# Altium footprint library Connectors.PcbLib: 4 footprints
Each footprint in its own frame and in the unit in brackets; x right, y up, seen from the top. Pads: shape width x height; smd on the part's side, far side on the other; paste and mask are expansions set on the pad; w line width, h text height; cw(c..) or ccw(c..) is an arc to the next point about the centre after c.
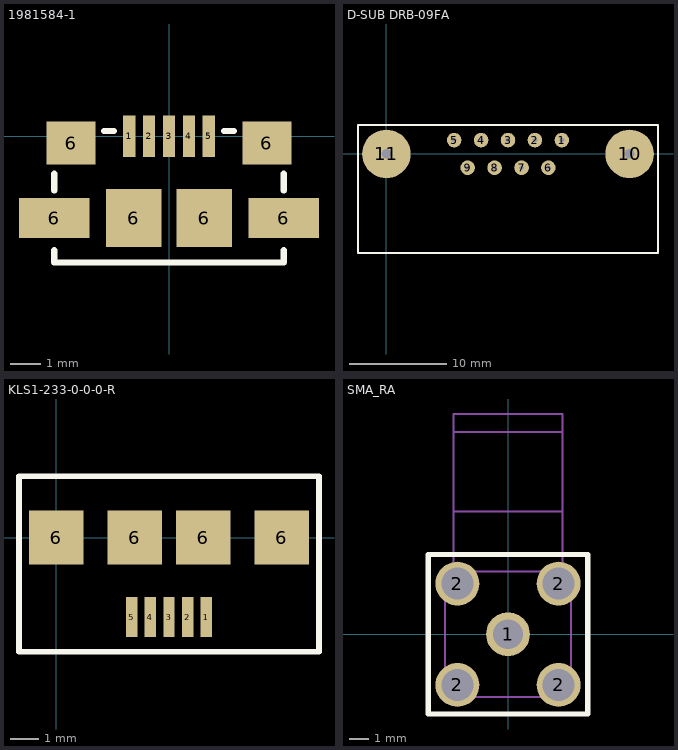
[diagram p0: the footprints below, top view; thin cyan lines are the x and y axes]

## 1981584-1 [mm]
pads (11):
  rect 0.4x1.35 smd: 1(-1.3,0) 2(-0.65,0) 3(0,0) 4(0.65,0) 5(1.3,0)
  rect 2.3x1.3 smd: 6(-3.75,-2.675) 6(3.75,-2.675)
  rect 1.6x1.4 smd: 6(-3.2,-0.225) 6(3.2,-0.225)
  rect 1.8x1.9 smd: 6(-1.15,-2.675) 6(1.15,-2.675)
Top Overlay:
  lines w0.2: -3.75,-3.725 -3.75,-4.125 3.75,-4.125 3.75,-3.725 ; -3.75,-1.775 -3.75,-1.225 ; -2.125,0.175 -1.8,0.175 ; 1.8,0.175 2.125,0.175 ; 3.75,-1.775 3.75,-1.225

## D-SUB DRB-09FA [mm]
pads (11):
  round 1.5 hole 0.5: 1(18.04,1.42) 2(15.27,1.42) 3(12.5,1.42) 4(9.73,1.42) 5(6.96,1.42) 6(16.65,-1.42) 7(13.89,-1.42) 8(11.12,-1.42) 9(8.35,-1.42)
  round 5 hole 1: 10(25,0) 11(0,0)
Top Overlay:
  lines w0.2: -2.92,-10.2 -2.92,2.98 27.92,2.98 27.92,-10.2 -2.92,-10.2

## KLS1-233-0-0-0-R [mm] "micro-USB"
pads (9):
  rect 0.4x1.4 smd: 1(5.25,-2.78) 2(4.6,-2.78) 3(3.95,-2.78) 4(3.3,-2.78) 5(2.65,-2.78)
  rect 1.9x1.9 smd: 6(0,0) 6(2.75,0) 6(5.15,0) 6(7.9,0)
Top Overlay:
  lines w0.2: -1.3,-4 -1.3,2.15 9.2,2.15 9.2,-4 -1.3,-4

## SMA_RA [mm] "SMA RIGHT ANGEL PCB"
pads (5):
  round 2.2 hole 1.5: 1(0,0)
  round 2.2 hole 1.6: 2(-2.54,-2.54) 2(-2.54,2.54) 2(2.54,-2.54) 2(2.54,2.54)
Top Overlay:
  lines w0.254: -4,-4 4,-4 4,4 -4,4 -4,-4
Mechanical 13:
  lines w0.1: -2.725,3.15 -2.725,11.05 2.725,11.05 2.725,3.15 ; -2.725,6.15 2.725,6.15 ; -2.725,10.15 2.725,10.15 ; -3.15,-3.15 -3.15,3.15 3.15,3.15 3.15,-3.15 -3.15,-3.15
3D body: height 9.67, standoff -3.79, extent -3.125,-3.125 3.225,11.683